# EAGLE library part MC100EP31DTG (library ON Semiconductor_By_element14_Batch_1)
D Flip-Flop with Set and Reset
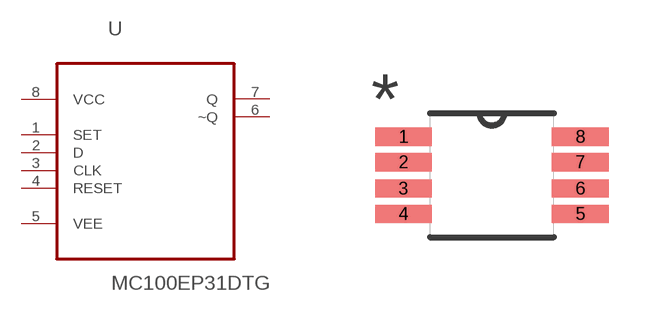
[diagram p114: symbol with the pads of SOP65P490X110-8N; footprint SOP65P490X110-8N]

Designator prefix U

## MC100EP31DTG (MPN: MC100EP31DTG; OC_FARNELL: -; OC_NEWARK: 26K3861; PACKAGE: TSSOP-8; SUPPLIER: On Semiconductor)  [SOP65P490X110-8N]
1  SET  in
2  D  in
3  CLK  in
4  RESET  in
5  VEE  pwr
6  ~Q  out
7  Q  out
8  VCC  pwr

## Footprint SOP65P490X110-8N (pad centres in mm)
smd 1.422 x 0.457: 1 -2.21,0.965; 2 -2.21,0.33; 3 -2.21,-0.33; 4 -2.21,-0.965; 5 2.21,-0.965; 6 2.21,-0.33; 7 2.21,0.33; 8 2.21,0.965